# Altium footprint library PCB_Librayr.PcbLib: 24 footprints (part 1 of 2)
Each footprint in its own frame and in the unit in brackets; x right, y up, seen from the top. Pads: shape width x height; smd on the part's side, far side on the other; paste and mask are expansions set on the pad; w line width, h text height; cw(c..) or ccw(c..) is an arc to the next point about the centre after c.
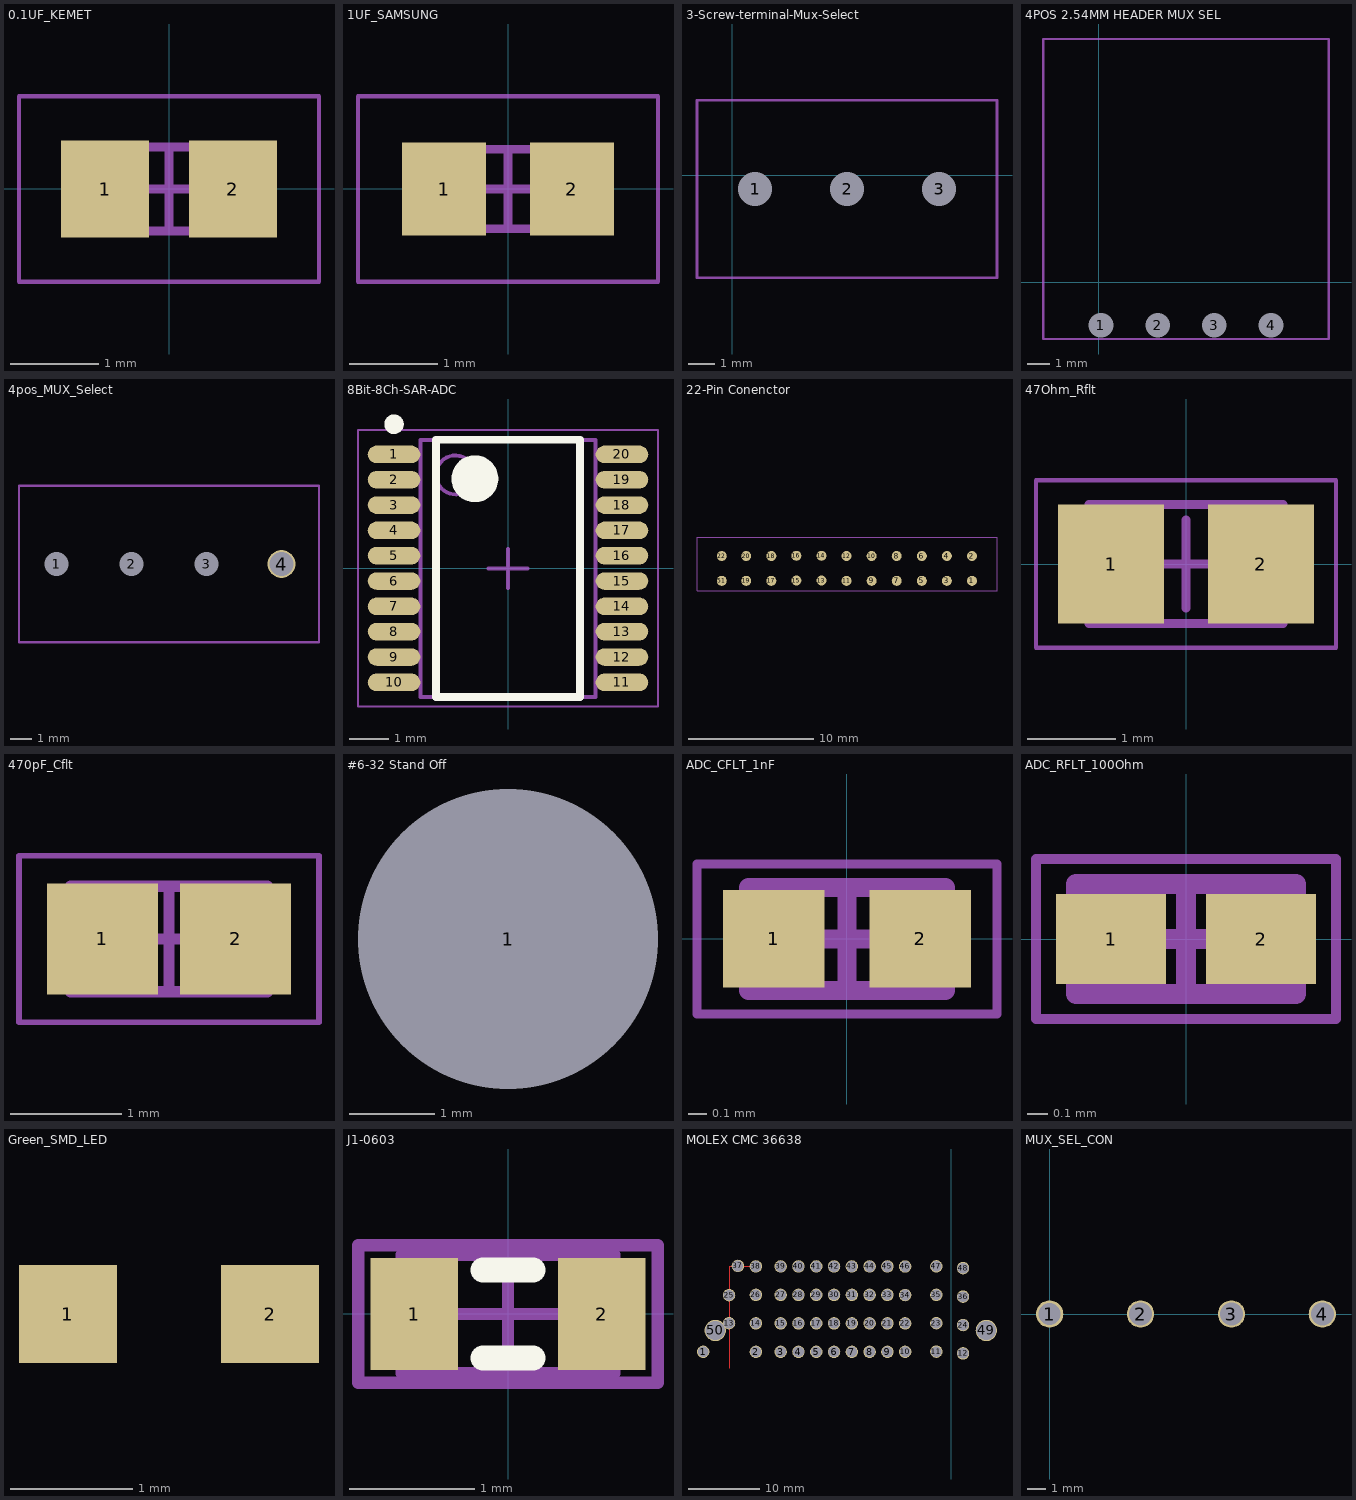
[diagram p0: the footprints below, top view; thin cyan lines are the x and y axes]

## 0.1UF_KEMET [mm]
pads (2):
  rect 1x1.1 smd: 1(-0.725,0) 2(0.725,0)
Mechanical 13:
  lines w0.1: -0.875,-0.475 0.875,-0.475 0.875,0.475 -0.875,0.475 -0.875,-0.475
Mechanical 15:
  lines w0.05: -1.7,-1.05 1.7,-1.05 1.7,1.05 -1.7,1.05 -1.7,-1.05
  lines w0.1: -0.475,0 0.475,0 ; 0,-0.475 0,0.475
3D body "CAPC1608X09M.step": height 0.92, standoff 0, extent -0.875,-0.475 0.875,0.475

## 1UF_SAMSUNG [mm]
pads (2):
  rect 0.95x1.05 smd: 1(-0.725,0) 2(0.725,0)
Mechanical 13:
  lines w0.1: -0.85,-0.45 0.85,-0.45 0.85,0.45 -0.85,0.45 -0.85,-0.45
Mechanical 15:
  lines w0.05: -1.7,-1.05 1.7,-1.05 1.7,1.05 -1.7,1.05 -1.7,-1.05
  lines w0.1: -0.45,0 0.45,0 ; 0,-0.45 0,0.45
3D body "CAPC1608X09M.step": height 0.9, standoff 0, extent -0.85,-0.45 0.85,0.45

## 3-Screw-terminal-Mux-Select [mm]
pads (3):
  round 0.8 hole 1.3: 1(0.864,-0.533) 2(4.369,-0.533) 3(7.874,-0.533)
Mechanical 1:
  lines w0.1: -1.346,-3.912 9.449,-3.912 10.084,-3.912 10.084,-0.533 10.084,2.845 8.915,2.845 -1.346,2.845 -1.346,0.483 -1.346,-0.711 -1.346,-3.912
3D body "691103110003 (rev1).stp": height 8.5, standoff -3.7, extent -1.432,-4.084 10.068,2.916

## 4POS 2.54MM HEADER MUX SEL [mm]
pads (4):
  round 0.8 hole 1.09: 1(0.102,-1.905) 2(2.616,-1.905) 3(5.131,-1.905) 4(7.645,-1.905)
Mechanical 1:
  lines w0.1: -2.464,-2.515 -2.464,-1.905 -2.464,10.795 10.211,10.795 10.211,-1.905 10.211,-2.515 -2.464,-2.515
3D body "705530108.stp": height 7.06, standoff -3.22, extent -2.438,-2.642 10.262,10.947

## 4pos_MUX_Select [mm]
pads (4):
  round 0.8 hole 1.1: 1(-332.156,-244.221) 2(-328.651,-244.221) 3(-325.145,-244.221)
  round 1.3 hole 1.1: 4(-321.64,-244.221)
Mechanical 1:
  lines w0.1: -333.908,-247.879 -333.908,-244.221 -333.908,-240.563 -325.145,-240.563 -319.888,-240.563 -319.888,-244.221 -319.888,-247.879 -325.145,-247.879 -333.908,-247.879
3D body "393570004.stp": height 8.51, standoff -3.51, extent -333.883,-248.094 -319.913,-240.805

## 8Bit-8Ch-SAR-ADC [mm]
height 1.25
pads (20):
  oval 1.35x0.45 smd: 1(-2.925,2.925) 2(-2.925,2.275) 3(-2.925,1.625) 4(-2.925,0.975) 5(-2.925,0.325) 6(-2.925,-0.325) 7(-2.925,-0.975) 8(-2.925,-1.625) 9(-2.925,-2.275) 10(-2.925,-2.925) 11(2.925,-2.925) 12(2.925,-2.275) 13(2.925,-1.625) 14(2.925,-0.975) 15(2.925,-0.325) 16(2.925,0.325) 17(2.925,0.975) 18(2.925,1.625) 19(2.925,2.275) 20(2.925,2.925)
Top Overlay:
  circle w0.6: c-0.85,2.3 r0.3
  circle w0.25: c-2.925,3.7 r0.125
  lines w0.2: -1.85,-3.3 1.85,-3.3 1.85,3.3 -1.85,3.3 -1.85,-3.3
Mechanical 13:
  circle w0.1: c-1.35,2.4 r0.5
  lines w0.1: -2.25,-3.3 2.25,-3.3 2.25,3.3 -2.25,3.3 -2.25,-3.3
Mechanical 15:
  lines w0.05: -3.85,-3.55 3.85,-3.55 3.85,3.55 -3.85,3.55 -3.85,-3.55
  lines w0.1: -0.5,0 0.5,0 ; 0,-0.5 0,0.5
3D body "8Bit-8Ch-SAR-ADC.step": height 1.25, standoff 0, extent -3.2,-3.3 3.2,3.3

## 22-Pin Conenctor [mm]
pads (22):
  round 0.8 smd: 1(-330.632,342.494) 2(-330.632,344.475) 3(-332.638,342.494) 4(-332.638,344.475) 5(-334.645,342.494) 6(-334.645,344.475) 7(-336.652,342.494) 8(-336.652,344.475) 9(-338.658,342.494) 10(-338.658,344.475) 11(-340.665,342.494) 12(-340.665,344.475) 13(-342.671,342.519) 14(-342.671,344.5) 15(-344.678,342.519) 16(-344.678,344.5) 17(-346.685,342.494) 18(-346.685,344.475) 19(-348.691,342.494) 20(-348.691,344.475) 22(-350.647,344.475) 51(-350.647,342.494)
Mechanical 1:
  lines w0.025: -328.629,345.97 -352.628,345.998 -352.628,341.684 -328.629,341.684 -328.629,345.998
3D body "DF11-22DP-2DS.stp": height 5.06, standoff -2.94, extent -352.639,342.189 -328.639,352.189

## 47Ohm_Rflt [mm] "Chip Resistor, 2-Leads, Body 2.00x1.25mm, IPC Medium Density"
height 0.6
pads (2):
  rect 1.2x1.35 smd: 1(-0.85,0) 2(0.85,0)
Mechanical 13:
  lines w0.1: -1.1,-0.675 -1.1,0.675 1.1,0.675 1.1,-0.675 -1.1,-0.675
Mechanical 15:
  lines w0.05: -1.7,-0.95 -1.7,0.95 1.7,0.95 1.7,-0.95 -1.7,-0.95
  lines w0.1: -0.5,0 0.5,0 ; 0,-0.5 0,0.5
3D body "47Ohm_Rflt.step": height 0.6, standoff 0, extent -1.1,-0.675 1.1,0.675

## 470pF_Cflt [mm] "Chip Capacitor, 2-Leads, Body 1.60x0.80mm, IPC Medium Density"
height 0.95
pads (2):
  rect 1x1 smd: 1(-3,2) 2(-1.8,2)
Mechanical 13:
  lines w0.1: -3.285,1.525 -3.285,2.475 -1.515,2.475 -1.515,1.525 -3.285,1.525
Mechanical 15:
  lines w0.05: -3.75,1.25 -3.75,2.75 -1.05,2.75 -1.05,1.25 -3.75,1.25
  lines w0.1: -2.875,2 -1.925,2 ; -2.4,1.525 -2.4,2.475
3D body "CAPC1608X09N.step": height 0.95, standoff 0, extent -3.285,1.525 -1.515,2.475

## #6-32 Stand Off [mm]
pads (1):
  round 0.8 hole 3.5: 1(-10.262,-30.658)
3D body "2102T-632-AL.stp": height 10.32, standoff 0, extent -13.92,-33.833 -6.603,-27.483

## ADC_CFLT_1nF [mm]
height 0.55
pads (2):
  rect 0.54x0.52 smd: 1(-0.39,0) 2(0.39,0)
Mechanical 13:
  lines w0.1: -0.525,-0.275 -0.525,0.275 0.525,0.275 0.525,-0.275 -0.525,-0.275
Mechanical 15:
  lines w0.05: -0.8,-0.4 -0.8,0.4 0.8,0.4 0.8,-0.4 -0.8,-0.4
  lines w0.1: -0.275,0 0.275,0 ; 0,-0.275 0,0.275
3D body "ADC_CFLT_1nF.step": height 0.55, standoff 0, extent -0.525,-0.275 0.525,0.275

## ADC_RFLT_100Ohm [mm]
height 0.4
pads (2):
  rect 0.55x0.45 smd: 1(-0.375,0) 2(0.375,0)
Mechanical 13:
  lines w0.1: -0.55,-0.275 0.55,-0.275 0.55,0.275 -0.55,0.275 -0.55,-0.275
Mechanical 15:
  lines w0.05: -0.75,-0.4 0.75,-0.4 0.75,0.4 -0.75,0.4 -0.75,-0.4
  lines w0.1: -0.275,0 0.275,0 ; 0,-0.275 0,0.275
3D body "ADC_RFLT_100Ohm.step": height 0.4, standoff 0, extent -0.55,-0.275 0.55,0.275

## Green_SMD_LED [mm]
pads (2):
  rect 0.8x0.8 smd: 1(8.788,-1.626) 2(10.439,-1.626)
3D body "0603_single.stp": height 0.71, standoff -0.01, extent 8.788,-2.019 10.414,-1.232

## J1-0603 [mm]
pads (2):
  rect 0.7x0.9 smd: 1(-0.75,0) 2(0.75,0)
Top Overlay:
  lines w0.2: -0.2,-0.35 0.2,-0.35 ; -0.2,0.35 0.2,0.35
Mechanical 13:
  lines w0.1: -0.85,-0.475 0.85,-0.475 0.85,0.475 -0.85,0.475 -0.85,-0.475
Mechanical 15:
  lines w0.1: -0.475,0 0.475,0 ; 0,-0.475 0,0.475 ; -1.2,-0.55 1.2,-0.55 1.2,0.55 -1.2,0.55 -1.2,-0.55
3D body: height 0.9, standoff 0, extent -0.85,-0.475 0.85,0.475

## MOLEX CMC 36638 [mm]
pads (50):
  round 1.75 hole 1.5 paste+0: 1(-34.9,-79.832) 2(-27.497,-79.835) 3(-24.01,-79.835) 4(-21.51,-79.835) 5(-19.01,-79.835) 6(-16.51,-79.835) 7(-14.01,-79.835) 8(-11.51,-79.835) 9(-9.01,-79.835) 10(-6.502,-79.832) 11(-2.134,-79.807) 12(1.626,-80.061) 13(-31.267,-75.819) 14(-27.499,-75.835) 15(-24.01,-75.835) 16(-21.51,-75.835) 17(-19.01,-75.835) 18(-16.51,-75.835) 19(-14.01,-75.835) 20(-11.51,-75.835) 21(-9.01,-75.835) 22(-6.502,-75.844) 23(-2.134,-75.819) 24(1.626,-76.073) 25(-31.267,-71.882) 26(-27.496,-71.835) 27(-24.01,-71.835) 28(-21.51,-71.835) 29(-19.01,-71.835) 30(-16.51,-71.835) 31(-14.01,-71.835) 32(-11.51,-71.835) 33(-9.01,-71.835) 34(-6.502,-71.857) 35(-2.134,-71.831) 36(1.626,-72.085) 37(-30.023,-67.767) 38(-27.5,-67.835) 39(-24.01,-67.835) 40(-21.51,-67.835) 41(-19.01,-67.835) 42(-16.51,-67.835) 43(-14.01,-67.835) 44(-11.51,-67.835) 45(-9.01,-67.835) 46(-6.502,-67.843) 47(-2.134,-67.818) 48(1.626,-68.072)
  round 3 hole 2.7: 49(4.902,-76.835) 50(-33.198,-76.835)
Top Layer:
  lines w0.01: -31.183,-82.152 -31.183,-67.835 -27.5,-67.835
3D body "Latch_Connector.stp": height 1.67, standoff -31.23, extent -42.204,-138.897 16.296,-82.677

## MUX_SEL_CON [mm]
pads (4):
  round 1.5 hole 1.2: 1(0,0)
  round 1.5 hole 1.27: 2(5,0) 3(10,0) 4(15,0)
3D body "395430004.stp": height 15.63, standoff -2.43, extent -2.54,-4.572 17.45,4.826